# Altium footprint library PCB - POWER MODULE - MEANWELL MDS06.PCBLIB: 1 footprints
Each footprint in its own frame and in the unit in brackets; x right, y up, seen from the top. Pads: shape width x height; smd on the part's side, far side on the other; paste and mask are expansions set on the pad; w line width, h text height; cw(c..) or ccw(c..) is an arc to the next point about the centre after c.
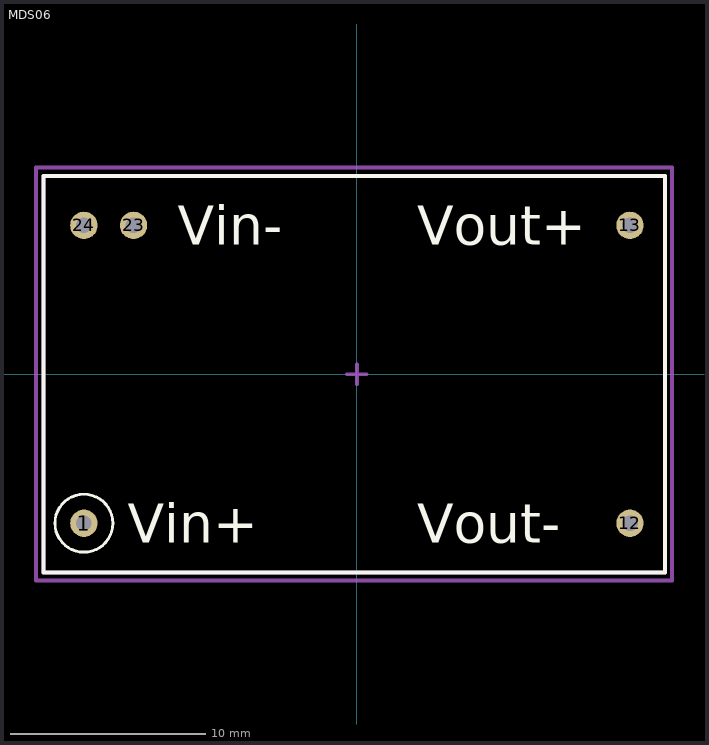
[diagram p0: the footprint, top view; thin cyan lines are the x and y axes]

## MDS06 [mm] "6W DIP Package DC-DC Medical Grade Regulated Converter"
height 12.2
pads (5):
  round 1.4 hole 0.8: 1(-13.97,-7.62) 12(13.97,-7.62) 13(13.97,7.62) 23(-11.43,7.62) 24(-13.97,7.62)
Top Overlay:
  circle w0.15: c-13.97,-7.62 r1.482
  lines w0.2: -16.03,-10.15 15.77,-10.15 15.77,10.15 -16.03,10.15 -16.03,-10.15
  text "Vin+" at -11.716,-8.62 h2
  text "Vin-" at -9.176,6.62 h2
  text "Vout+" at 3.084,6.62 h2
  text "Vout-" at 3.084,-8.62 h2
Top Component Center:
  lines w0.2: -0.5,0 0.5,0 ; 0,-0.5 0,0.5
Top:
  lines w0.2: -16.034,-10.15 15.77,-10.15 15.77,10.15 -16.034,10.15 -16.034,-10.15
Top Courtyard (Mech15):
  lines w0.2: -16.43,-10.55 16.13,-10.55 16.13,10.58 -16.43,10.58 -16.43,-10.55
3D body: height 12.2, standoff 0, extent -16,-10.228 15.84,10.2
3D body: height 0, standoff -3.81, extent -14.27,7.32 -13.67,7.92
3D body: height 0, standoff -3.81, extent -14.27,-7.92 -13.67,-7.32
3D body: height 0, standoff -3.81, extent 13.67,-7.92 14.27,-7.32
3D body: height 0, standoff -3.81, extent 13.67,7.32 14.27,7.92
3D body: height 0, standoff -3.81, extent -11.73,7.32 -11.13,7.92